# EAGLE library part GPS_CONN (library rct_ui_board)
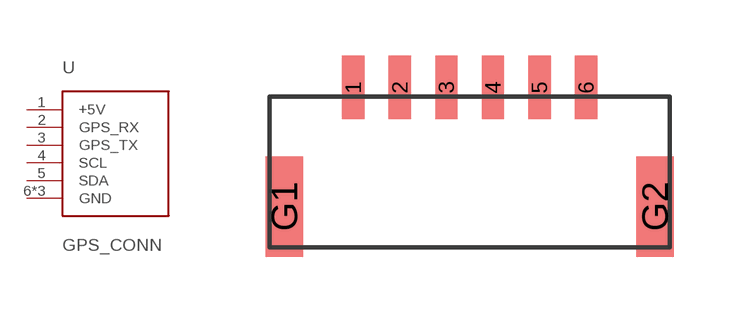
[diagram p1: symbol with the pads of SM06B-GHS-TB; footprint SM06B-GHS-TB]

Designator prefix -

## GPS_CONN  [SM06B-GHS-TB]
1  +5V  pwr
2  GPS_RX  in
3  GPS_TX  out
4  SCL  out
5  SDA
6  GND  sup
G1  GND  sup
G2  GND  sup

## Footprint SM06B-GHS-TB (pad centres in mm)
smd 0.6 x 1.7: 1 -3.125,4.55; 2 -1.875,4.55; 3 -0.625,4.55; 4 0.625,4.55; 5 1.875,4.55; 6 3.125,4.55
smd 1 x 2.7: G1 -4.975,1.35; G2 4.975,1.35